# Altium footprint library Revo_connector_shinyoon.PcbLib: 3 footprints
Each footprint in its own frame and in the unit in brackets; x right, y up, seen from the top. Pads: shape width x height; smd on the part's side, far side on the other; paste and mask are expansions set on the pad; w line width, h text height; cw(c..) or ccw(c..) is an arc to the next point about the centre after c.
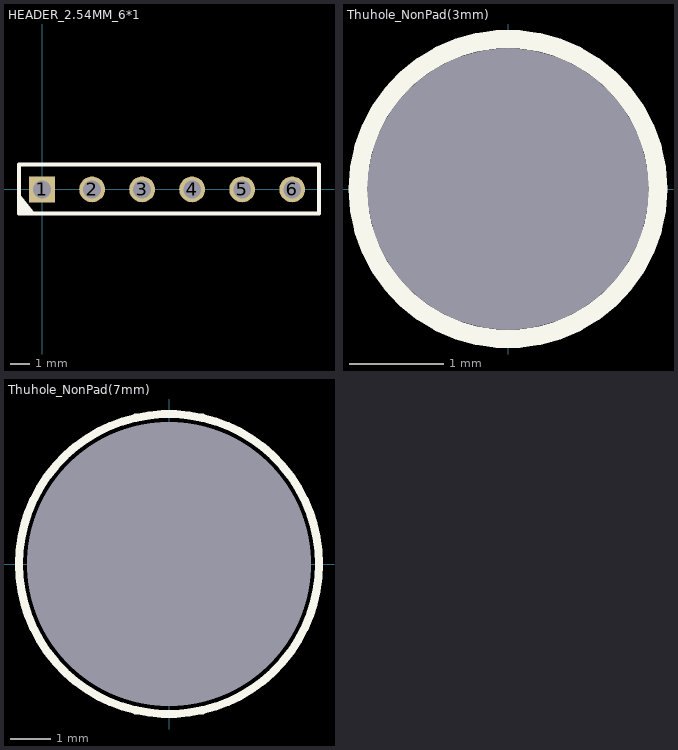
[diagram p0: the footprints below, top view; thin cyan lines are the x and y axes]

## HEADER_2.54MM_6*1 [mm] "Header Pin 2.54mm pitch 6Pin(6X1)"
pads (6):
  rect 1.31x1.31 hole 0.9 mask+0.1: 1(0,0)
  round 1.31 hole 0.9 mask+0.1: 2(2.54,0) 3(5.08,0) 4(7.62,0) 5(10.16,0) 6(12.7,0)
Top Overlay:
  region: -1.15,-0.23 -1.15,-1.23 -0.35,-1.23
  lines w0.203: -1.17,-1.23 -1.17,1.27 14.06,1.27 14.06,-1.23 -1.125,-1.23

## Thuhole_NonPad(3mm) [mm] "Thuhole"
pads (1):
  round 0 hole 3: 1(0,0)
Top Overlay:
  circle w0.2: c0,0 r1.6

## Thuhole_NonPad(7mm) [mm] "Thuhole"
pads (1):
  round 0 hole 7: 1(0,0)
Top Overlay:
  circle w0.2: c0,0 r3.7